# Altium schematic symbol library ADM3066E.SchLib: 1 symbol
Pins are listed as number, name and electrical type; pins without a type are passive.

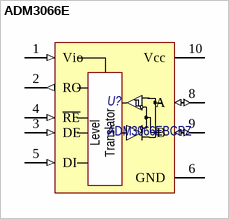
[diagram p0: symbol ADM3066E]

## ADM3066E
designator U?, comment ADM3066EBCPZ
3.0 V to 5.5 V, ±12 kV IEC ESD Protected, 500 kbps/50 Mbps RS-485 Transceiver; Потребление, Вт: 0,1; Наименование: ADM3066EBCPZ; Назначение: RS-485 Transceiver
footprint LFCSP-10_3x3 (LFCSP, 10-Leads, Body 3,00x3,00mm, Pitch 0,50mm, Thermal Pad 2,36x1,49mm, IPC Medium Density)
pins: 1 Vio (in), 2 RO (out), 3 DE (in), 4 ~{RE} (in), 5 DI (in), 6 GND (power), 8 A (io), 9 B (io), 10 Vcc (power), 11 GND (power) "TP"
text: Level; Translator